# Altium footprint library acoustics-lib.PcbLib: 2 footprints
Each footprint in its own frame and in the unit in brackets; x right, y up, seen from the top. Pads: shape width x height; smd on the part's side, far side on the other; paste and mask are expansions set on the pad; w line width, h text height; cw(c..) or ccw(c..) is an arc to the next point about the centre after c.
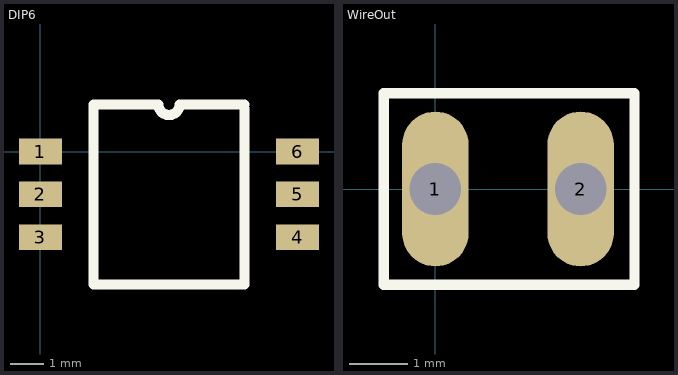
[diagram p0: the footprints below, top view; thin cyan lines are the x and y axes]

## DIP6 [mm]
pads (6):
  rect 1.27x0.76 all layers, no hole: 1(0,0) 2(0,-1.27) 3(0,-2.54) 4(7.62,-2.54) 5(7.62,-1.27) 6(7.62,0)
Top Overlay:
  lines w0.3: 6.05,1.27 6.05,-3.937 1.57,-3.937 1.57,1.397 3.492,1.397 ccw(c3.81,1.397) 4.127,1.397 6.05,1.397

## WireOut [mil]
pads (2):
  oval 45x105 hole 35: 1(0,0) 2(98.43,0)
Top Overlay:
  lines w7: -35,-65 -35,65 135,65 135,-65 -35,-65